# EAGLE library part A4982SLPTR-T (library Allegro_A4982_driver)
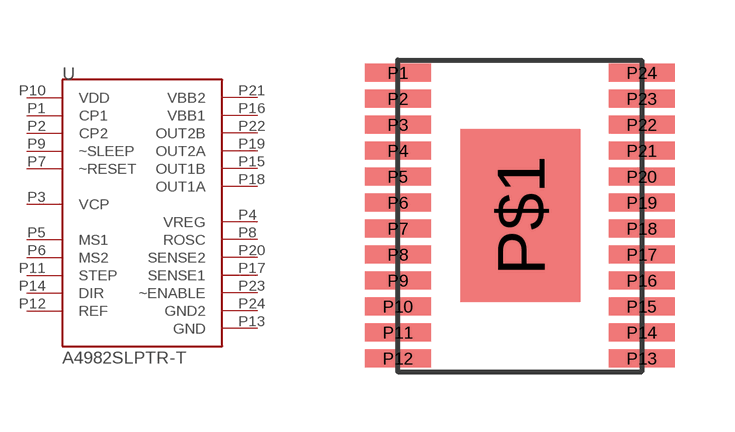
[diagram p0: symbol with the pads of TSSOP_24; footprint TSSOP_24]

Designator prefix -

## A4982SLPTR-T  [TSSOP_24]
P1  CP1
P2  CP2
P3  VCP
P4  VREG
P5  MS1
P6  MS2
P7  ~RESET
P8  ROSC
P9  ~SLEEP
P10  VDD
P11  STEP
P12  REF
P13  GND
P14  DIR
P15  OUT1B
P16  VBB1
P17  SENSE1
P18  OUT1A
P19  OUT2A
P20  SENSE2
P21  VBB2
P22  OUT2B
P23  ~ENABLE
P24  GND2

## Footprint TSSOP_24 (pad centres in mm)
smd 1.65 x 0.45: P1 -3.175,3.67; P2 -3.175,3.02; P3 -3.175,2.37; P4 -3.175,1.72; P5 -3.175,1.07; P6 -3.175,0.42; P7 -3.175,-0.23; P8 -3.175,-0.88; P9 -3.175,-1.53; P10 -3.175,-2.18; P11 -3.175,-2.83; P12 -3.175,-3.48; P13 2.925,-3.48; P14 2.925,-2.83; P15 2.925,-2.18; P16 2.925,-1.53; P17 2.925,-0.88; P18 2.925,-0.23; P19 2.925,0.42; P20 2.925,1.07; P21 2.925,1.72; P22 2.925,2.37; P23 2.925,3.02; P24 2.925,3.67
smd 3 x 4.32: P$1 -0.102,0.099